# Altium schematic symbol library Schlib2.SchLib: 1 symbol
Pins are listed as number, name and electrical type; pins without a type are passive.

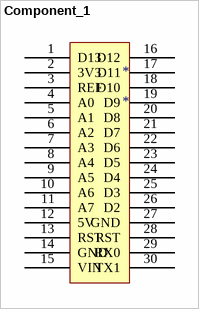
[diagram p0: symbol Component_1]

## Component_1
designator *
footprint PCBComponent_1
pins: 1 D13, 2 3V3, 3 REF, 4 A0, 5 A1, 6 A2, 7 A3, 8 A4, 9 A5, 10 A6, 11 A7, 12 5V, 13 RST, 14 GND, 15 VIN, 16 D12, 17 D11, 18 D10, 19 D9, 20 D8, 21 D7, 22 D6, 23 D5, 24 D4, 25 D3, 26 D2, 27 GND, 28 RST, 29 RX0, 30 TX1